# Altium schematic symbol library Relay-CPC1964B.SchLib: 1 symbol
Pins are listed as number, name and electrical type; pins without a type are passive.

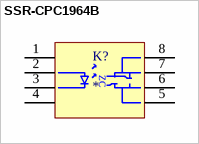
[diagram p0: symbol SSR-CPC1964B]

## SSR-CPC1964B
designator K?
Relay SSR SPST 1.5A 0~800V; Digi-Key Part Number: CLA413-ND
footprint CPC1964B (SSR SPST, 1.5A 0~800V)
pins: 1 NC, 2 LED+, 3 LED-, 4 NC, 5, 6, 7, 8
text: ZC